# EAGLE library part MAX14662ETI+ (library NM_Visual_Cortex_12-10-18)
Analogue Switch ICs Octal SPST Beyond the Rails Switch
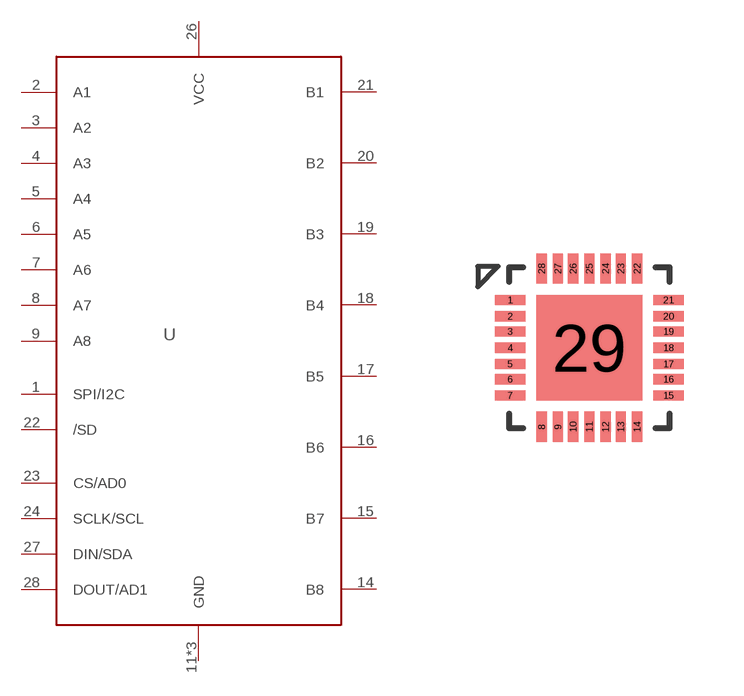
[diagram p2: symbol with the pads of TQFN28; footprint TQFN28]

Designator prefix -

## MAX14662ETI+ (CHANNEL: 8; DESCRIPTION: Analogue Switch ICs Octal 8*SPST Beyond the Rails Switch; MF: Maxim integrated; MP: MAX14662ETI+; PACKAGE: TQFN-28)  [TQFN28]
1  SPI/I2C
2  A1
3  A2
4  A3
5  A4
6  A5
7  A6
8  A7
9  A8
11  GND
14  B8
15  B7
16  B6
17  B5
18  B4
19  B3
20  B2
21  B1
22  /SD
23  CS/AD0
24  SCLK/SCL
25  GND
26  VCC
27  DIN/SDA
28  DOUT/AD1
29  GND

## Footprint TQFN28 (pad centres in mm)
smd 0.762 x 0.254: 1 -1.981,1.194; 2 -1.981,0.787; 3 -1.981,0.406; 4 -1.981,0; 5 -1.981,-0.406; 6 -1.981,-0.787; 7 -1.981,-1.194; 15 1.981,-1.194; 16 1.981,-0.787; 17 1.981,-0.406; 18 1.981,0; 19 1.981,0.406; 20 1.981,0.787; 21 1.981,1.194
smd 0.254 x 0.762: 8 -1.194,-1.981; 9 -0.787,-1.981; 10 -0.406,-1.981; 11 0,-1.981; 12 0.406,-1.981; 13 0.787,-1.981; 14 1.194,-1.981; 22 1.194,1.981; 23 0.787,1.981; 24 0.406,1.981; 25 0,1.981; 26 -0.406,1.981; 27 -0.787,1.981; 28 -1.194,1.981
smd 2.642 x 2.642: 29 0,0